# Altium schematic symbol library INA220BQDGSRQ1.SchLib: 1 symbol
Pins are listed as number, name and electrical type; pins without a type are passive.

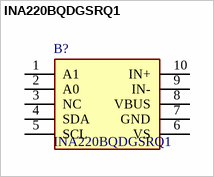
[diagram p0: symbol INA220BQDGSRQ1]

## INA220BQDGSRQ1
designator B?
Automotive, 26-V, Bi-Directional, Zero-Drift, Low-/High-Side, I2C Out Current/Power Monitor; Manufacturer_Name: Texas Instruments; Geometry.Height: 1.1mm; Mouser Part Number: 595-INA220BQDGSRQ1; Mouser Price/Stock: https://www.mouser.co.uk/ProductDetail/Texas-Instruments/INA220BQDGSRQ1?qs=4whTb%2F0XQMgSmfUlXJGxRQ%3D%3D; Manufacturer_Part_Number: INA220BQDGSRQ1; Datasheet Link: http://www.ti.com/lit/gpn/ina220-q1
footprint SOP50P490X110-10N
pins: 1 A1, 2 A0, 3 NC, 4 SDA, 5 SCL, 6 VS, 7 GND, 8 VBUS, 9 IN-, 10 IN+